# Altium schematic symbol library SCH - DRIVER - LED - TI TPS92691PWP.SchLib: 1 symbol
Pins are listed as number, name and electrical type; pins without a type are passive.

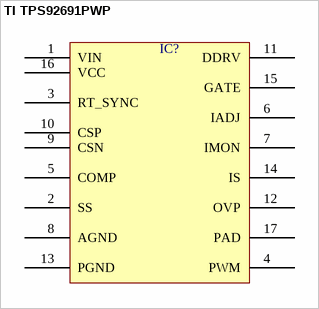
[diagram p0: symbol TI TPS92691PWP]

## TI TPS92691PWP
designator IC?  (value not drawn)
pins: 1 VIN, 2 SS, 3 RT_SYNC, 4 PWM, 5 COMP, 6 IADJ, 7 IMON, 8 AGND, 9 CSN, 10 CSP, 11 DDRV, 12 OVP, 13 PGND, 14 IS, 15 GATE, 16 VCC, 17 PAD